# Altium schematic symbol library STM32F103CBU6.SchLib: 1 symbol
Pins are listed as number, name and electrical type; pins without a type are passive.

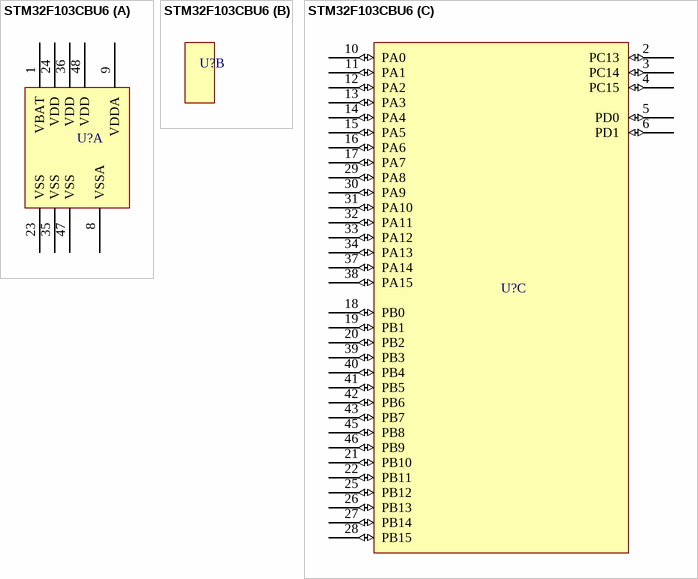
[diagram p0: symbol STM32F103CBU6]

## STM32F103CBU6
designator U?  (value not drawn)
Mainstream Performance line, Arm Cortex-M3 MCU with 128 Kbytes of Flash memory, 72 MHz CPU, motor control, USB and CAN
part A pins: 1 VBAT (power), 8 VSSA (power), 9 VDDA (power), 23 VSS (power), 24 VDD (power), 35 VSS (power), 36 VDD (power), 47 VSS (power), 48 VDD (power)
part C pins: 2 PC13 (io), 3 PC14 (io), 4 PC15 (io), 5 PD0 (io), 6 PD1 (io), 10 PA0 (io), 11 PA1 (io), 12 PA2 (io), 13 PA3 (io), 14 PA4 (io), 15 PA5 (io), 16 PA6 (io), 17 PA7 (io), 18 PB0 (io), 19 PB1 (io), 20 PB2 (io), 21 PB10 (io), 22 PB11 (io), 25 PB12 (io), 26 PB13 (io), 27 PB14 (io), 28 PB15 (io), 29 PA8 (io), 30 PA9 (io), 31 PA10 (io), 32 PA11 (io), 33 PA12 (io), 34 PA13 (io), 37 PA14 (io), 38 PA15 (io), 39 PB3 (io), 40 PB4 (io), 41 PB5 (io), 42 PB6 (io), 43 PB7 (io), 45 PB8 (io), 46 PB9 (io)